# Altium integrated library Capacitors - Aluminum - Electrolytic SMT.IntLib: 1988 symbols (part 40 of 50)
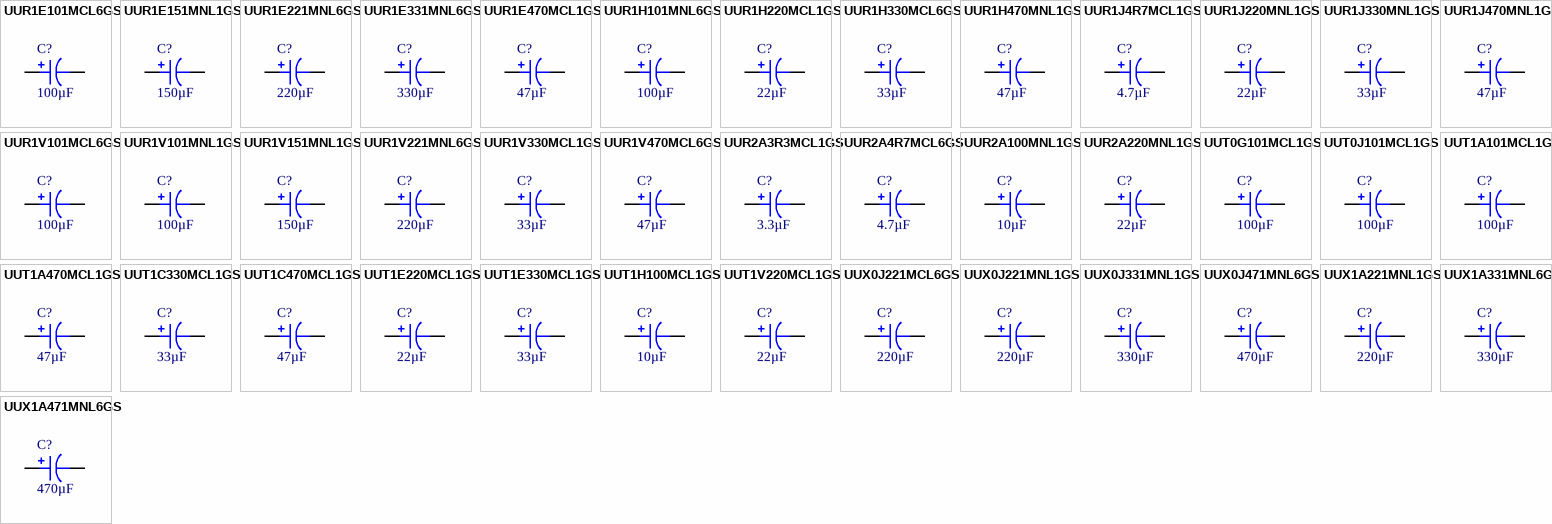
[diagram p87: symbols UUR1E101MCL6GS to UUX1A471MNL6GS]

## UUX0J221MNL1GS
designator C?, comment 220µF
CAP ALUM 220UF 20% 6.3V SMD; Part Number: UUX0J221MNL1GS; Manufacturer: Nichicon; Lifetime @ Temp.: 2000 Hrs @ 105°C; Polarization: Polar; Ripple Current @ High Frequency: 209.3mA @ 10kHz; Ripple Current @ Low Frequency: 161mA @ 120Hz; Surface Mount Land Size: 0.327" L x 0.327" W (8.30mm x 8.30mm); Applications: General Purpose; Capacitance: 220µF; ComponentLink1Description: Datasheet; ComponentLink1URL: http://nichicon-us.com/english/products/pdfs/e-uux.pdf; ComponentLink2Description: DigiKey Link; ComponentLink2URL: http://digikey.com/product-detail/en/nichicon/UUX0J221MNL1GS/493-9603-1-ND/3962935; Device Package: Radial, Can - SMD; Height - Seated (Max): 0.413" (10.50mm); LastUpdated: 9/2/2020 1:25:15 AM; Lifecycle Status: Active; Minimum Order: 1; Mounting Type: Surface Mount; Operating Temperature: -55°C ~ 105°C; Package / Case: Radial, Can - SMD; Packaging: TapeAndReel; PartId: 7577; Part Status: Active; Price: 0.15; Series: UUX; Size / Dimension: 0.315" Dia (8.00mm); Supplier 1: DigiKey; Supplier Part Number 1: 493-9603-1-ND; Tolerance: ±20%; Value: 220µF; Voltage - Rated: 6.3V
footprint CAP ALSMD 8.3MM H10.5MM
pins: 1, 2

## UUX0J331MNL1GS
designator C?, comment 330µF
CAP ALUM 330UF 20% 6.3V SMD; Part Number: UUX0J331MNL1GS; Manufacturer: Nichicon; Lifetime @ Temp.: 2000 Hrs @ 105°C; Polarization: Polar; Ripple Current @ High Frequency: 374.4mA @ 10kHz; Ripple Current @ Low Frequency: 288mA @ 120Hz; Surface Mount Land Size: 0.327" L x 0.327" W (8.30mm x 8.30mm); Applications: General Purpose; Capacitance: 330µF; ComponentLink1Description: Datasheet; ComponentLink1URL: http://nichicon-us.com/english/products/pdfs/e-uux.pdf; ComponentLink2Description: DigiKey Link; ComponentLink2URL: http://digikey.com/product-detail/en/nichicon/UUX0J331MNL1GS/493-9604-1-ND/3962936; Device Package: Radial, Can - SMD; Height - Seated (Max): 0.413" (10.50mm); LastUpdated: 9/2/2020 1:25:15 AM; Lifecycle Status: Active; Minimum Order: 1; Mounting Type: Surface Mount; Operating Temperature: -55°C ~ 105°C; Package / Case: Radial, Can - SMD; Packaging: TapeAndReel; PartId: 7561; Part Status: Active; Price: 0.17; Series: UUX; Size / Dimension: 0.315" Dia (8.00mm); Supplier 1: DigiKey; Supplier Part Number 1: 493-9604-1-ND; Tolerance: ±20%; Value: 330µF; Voltage - Rated: 6.3V
footprint CAP ALSMD 8.3MM H10.5MM
pins: 1, 2

## UUX0J471MNL6GS
designator C?, comment 470µF
CAP ALUM 470UF 20% 6.3V SMD; Part Number: UUX0J471MNL6GS; Manufacturer: Nichicon; Lifetime @ Temp.: 2000 Hrs @ 105°C; Polarization: Polar; Ripple Current @ High Frequency: 410.8mA @ 10kHz; Ripple Current @ Low Frequency: 316mA @ 120Hz; Surface Mount Land Size: 0.327" L x 0.327" W (8.30mm x 8.30mm); Applications: General Purpose; Capacitance: 470µF; ComponentLink1Description: Datasheet; ComponentLink1URL: http://nichicon-us.com/english/products/pdfs/e-uux.pdf; ComponentLink2Description: DigiKey Link; ComponentLink2URL: http://digikey.com/product-detail/en/nichicon/UUX0J471MNL6GS/493-9606-1-ND/3962938; Device Package: Radial, Can - SMD; Height - Seated (Max): 0.413" (10.50mm); LastUpdated: 9/2/2020 1:25:16 AM; Lifecycle Status: Active; Minimum Order: 1; Mounting Type: Surface Mount; Operating Temperature: -55°C ~ 105°C; Package / Case: Radial, Can - SMD; Packaging: TapeAndReel; PartId: 7469; Part Status: Active; Price: 0.15; Series: UUX; Size / Dimension: 0.315" Dia (8.00mm); Supplier 1: DigiKey; Supplier Part Number 1: 493-9606-1-ND; Tolerance: ±20%; Value: 470µF; Voltage - Rated: 6.3V
footprint CAP ALSMD 8.3MM H10.5MM
pins: 1, 2

## UUX1A221MNL1GS
designator C?, comment 220µF
CAP ALUM 220UF 20% 10V SMD; Part Number: UUX1A221MNL1GS; Manufacturer: Nichicon; Lifetime @ Temp.: 2000 Hrs @ 105°C; Polarization: Polar; Ripple Current @ High Frequency: 224.9mA @ 10kHz; Ripple Current @ Low Frequency: 173mA @ 120Hz; Surface Mount Land Size: 0.327" L x 0.327" W (8.30mm x 8.30mm); Applications: General Purpose; Capacitance: 220µF; ComponentLink1Description: Datasheet; ComponentLink1URL: http://nichicon-us.com/english/products/pdfs/e-uux.pdf; ComponentLink2Description: DigiKey Link; ComponentLink2URL: http://digikey.com/product-detail/en/nichicon/UUX1A221MNL1GS/493-7449-1-ND/3768839; Device Package: Radial, Can - SMD; Height - Seated (Max): 0.413" (10.50mm); LastUpdated: 9/2/2020 1:25:15 AM; Lifecycle Status: Active; Minimum Order: 1; Mounting Type: Surface Mount; Operating Temperature: -55°C ~ 105°C; Package / Case: Radial, Can - SMD; Packaging: TapeAndReel; PartId: 7560; Part Status: Active; Price: 0.16; Series: UUX; Size / Dimension: 0.315" Dia (8.00mm); Supplier 1: DigiKey; Supplier Part Number 1: 493-7449-1-ND; Tolerance: ±20%; Value: 220µF; Voltage - Rated: 10V
footprint CAP ALSMD 8.3MM H10.5MM
pins: 1, 2

## UUX1A331MNL6GS
designator C?, comment 330µF
CAP ALUM 330UF 20% 10V SMD; Part Number: UUX1A331MNL6GS; Manufacturer: Nichicon; Lifetime @ Temp.: 2000 Hrs @ 105°C; Polarization: Polar; Ripple Current @ High Frequency: 384.8mA @ 10kHz; Ripple Current @ Low Frequency: 296mA @ 120Hz; Surface Mount Land Size: 0.327" L x 0.327" W (8.30mm x 8.30mm); Applications: General Purpose; Capacitance: 330µF; ComponentLink1Description: Datasheet; ComponentLink1URL: http://nichicon-us.com/english/products/pdfs/e-uux.pdf; ComponentLink2Description: DigiKey Link; ComponentLink2URL: http://digikey.com/product-detail/en/nichicon/UUX1A331MNL6GS/493-9611-1-ND/3962943; Device Package: Radial, Can - SMD; Height - Seated (Max): 0.413" (10.50mm); LastUpdated: 9/2/2020 1:25:16 AM; Lifecycle Status: Active; Minimum Order: 1; Mounting Type: Surface Mount; Operating Temperature: -55°C ~ 105°C; Package / Case: Radial, Can - SMD; Packaging: TapeAndReel; PartId: 7470; Part Status: Active; Price: 0.15; Series: UUX; Size / Dimension: 0.315" Dia (8.00mm); Supplier 1: DigiKey; Supplier Part Number 1: 493-9611-1-ND; Tolerance: ±20%; Value: 330µF; Voltage - Rated: 10V
footprint CAP ALSMD 8.3MM H10.5MM
pins: 1, 2

## UUX1A471MNL6GS
designator C?, comment 470µF
CAP ALUM 470UF 20% 10V SMD; Part Number: UUX1A471MNL6GS; Manufacturer: Nichicon; Lifetime @ Temp.: 2000 Hrs @ 105°C; Polarization: Polar; Ripple Current @ High Frequency: 423.8mA @ 10kHz; Ripple Current @ Low Frequency: 326mA @ 120Hz; Surface Mount Land Size: 0.327" L x 0.327" W (8.30mm x 8.30mm); Applications: General Purpose; Capacitance: 470µF; ComponentLink1Description: Datasheet; ComponentLink1URL: http://nichicon-us.com/english/products/pdfs/e-uux.pdf; ComponentLink2Description: DigiKey Link; ComponentLink2URL: http://digikey.com/product-detail/en/nichicon/UUX1A471MNL6GS/493-9612-1-ND/3962944; Device Package: Radial, Can - SMD; Height - Seated (Max): 0.413" (10.50mm); LastUpdated: 9/2/2020 1:25:14 AM; Lifecycle Status: Active; Minimum Order: 1; Mounting Type: Surface Mount; Operating Temperature: -55°C ~ 105°C; Package / Case: Radial, Can - SMD; Packaging: TapeAndReel; PartId: 7643; Part Status: Active; Price: 0.22; Series: UUX; Size / Dimension: 0.315" Dia (8.00mm); Supplier 1: DigiKey; Supplier Part Number 1: 493-9612-1-ND; Tolerance: ±20%; Value: 470µF; Voltage - Rated: 10V
footprint CAP ALSMD 8.3MM H10.5MM
pins: 1, 2

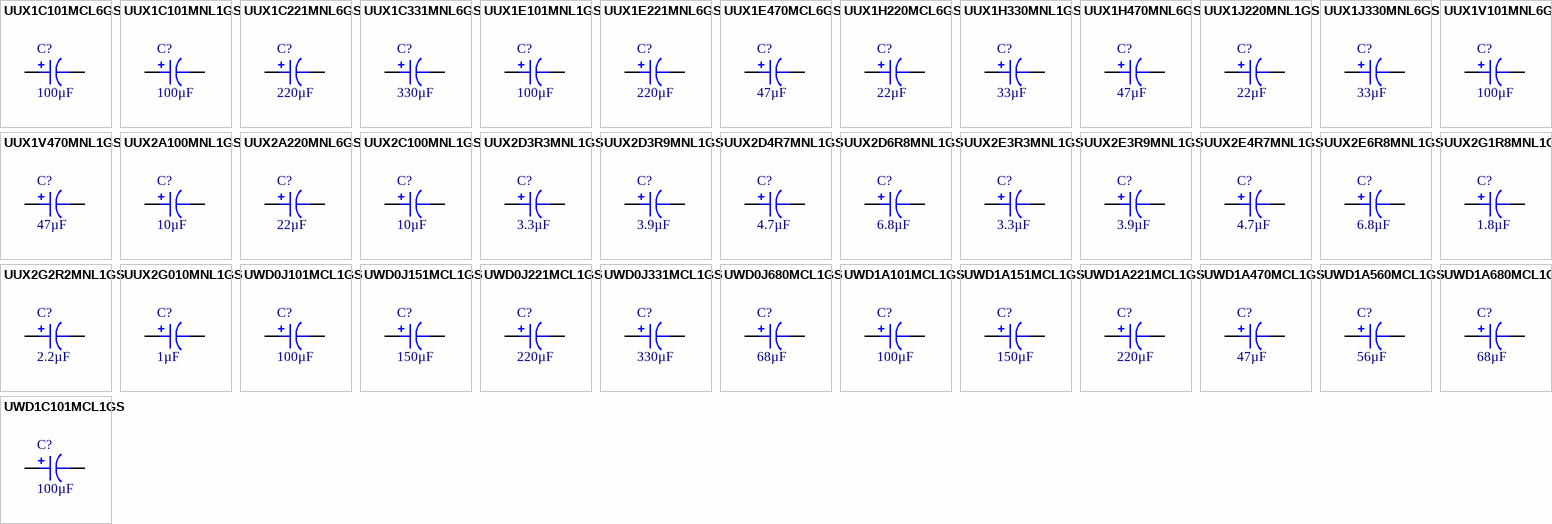
[diagram p39: symbols UUX1C101MCL6GS to UWD1C101MCL1GS]

## UUX1C101MCL6GS
designator C?, comment 100µF
CAP ALUM 100UF 20% 16V SMD; Part Number: UUX1C101MCL6GS; Manufacturer: Nichicon; Lifetime @ Temp.: 2000 Hrs @ 105°C; Polarization: Polar; Ripple Current @ High Frequency: 144.3mA @ 10kHz; Ripple Current @ Low Frequency: 111mA @ 120Hz; Surface Mount Land Size: 0.260" L x 0.260" W (6.60mm x 6.60mm); Applications: General Purpose; Capacitance: 100µF; ComponentLink1Description: Datasheet; ComponentLink1URL: http://nichicon-us.com/english/products/pdfs/e-uux.pdf; ComponentLink2Description: DigiKey Link; ComponentLink2URL: http://digikey.com/product-detail/en/nichicon/UUX1C101MCL6GS/493-9614-1-ND/3962946; Device Package: Radial, Can - SMD; Height - Seated (Max): 0.315" (8.00mm); LastUpdated: 9/2/2020 1:25:38 AM; Lifecycle Status: Active; Minimum Order: 1; Mounting Type: Surface Mount; Operating Temperature: -55°C ~ 105°C; Package / Case: Radial, Can - SMD; Packaging: TapeAndReel; PartId: 8395; Part Status: Active; Price: 0.11; Series: UUX; Size / Dimension: 0.248" Dia (6.30mm); Supplier 1: DigiKey; Supplier Part Number 1: 493-9614-1-ND; Tolerance: ±20%; Value: 100µF; Voltage - Rated: 16V
footprint CAP ALSMD 6.6MM H8.0MM
pins: 1, 2

## UUX1C101MNL1GS
designator C?, comment 100µF
CAP ALUM 100UF 20% 16V SMD; Part Number: UUX1C101MNL1GS; Manufacturer: Nichicon; Lifetime @ Temp.: 2000 Hrs @ 105°C; Polarization: Polar; Ripple Current @ High Frequency: 192.4mA @ 10kHz; Ripple Current @ Low Frequency: 148mA @ 120Hz; Surface Mount Land Size: 0.327" L x 0.327" W (8.30mm x 8.30mm); Applications: General Purpose; Capacitance: 100µF; ComponentLink1Description: Datasheet; ComponentLink1URL: http://nichicon-us.com/english/products/pdfs/e-uux.pdf; ComponentLink2Description: DigiKey Link; ComponentLink2URL: http://digikey.com/product-detail/en/nichicon/UUX1C101MNL1GS/493-9615-1-ND/3962947; Device Package: Radial, Can - SMD; Height - Seated (Max): 0.413" (10.50mm); LastUpdated: 9/2/2020 1:25:14 AM; Lifecycle Status: Active; Minimum Order: 1; Mounting Type: Surface Mount; Operating Temperature: -55°C ~ 105°C; Package / Case: Radial, Can - SMD; Packaging: TapeAndReel; PartId: 7711; Part Status: Active; Price: 0.17; Series: UUX; Size / Dimension: 0.315" Dia (8.00mm); Supplier 1: DigiKey; Supplier Part Number 1: 493-9615-1-ND; Tolerance: ±20%; Value: 100µF; Voltage - Rated: 16V
footprint CAP ALSMD 8.3MM H10.5MM
pins: 1, 2

## UUX1C221MNL6GS
designator C?, comment 220µF
CAP ALUM 220UF 20% 16V SMD; Part Number: UUX1C221MNL6GS; Manufacturer: Nichicon; Lifetime @ Temp.: 2000 Hrs @ 105°C; Polarization: Polar; Ripple Current @ High Frequency: 429mA @ 10kHz; Ripple Current @ Low Frequency: 307mA @ 120Hz; Surface Mount Land Size: 0.327" L x 0.327" W (8.30mm x 8.30mm); Applications: General Purpose; Capacitance: 220µF; ComponentLink1Description: Datasheet; ComponentLink1URL: http://nichicon-us.com/english/products/pdfs/e-uux.pdf; ComponentLink2Description: DigiKey Link; ComponentLink2URL: http://digikey.com/product-detail/en/nichicon/UUX1C221MNL6GS/493-6266-1-ND/3438779; Device Package: Radial, Can - SMD; Height - Seated (Max): 0.413" (10.50mm); LastUpdated: 9/2/2020 1:25:15 AM; Lifecycle Status: Active; Minimum Order: 1; Mounting Type: Surface Mount; Operating Temperature: -55°C ~ 105°C; Package / Case: Radial, Can - SMD; Packaging: TapeAndReel; PartId: 7620; Part Status: Active; Price: 0.14; Series: UUX; Size / Dimension: 0.315" Dia (8.00mm); Supplier 1: DigiKey; Supplier Part Number 1: 493-6266-1-ND; Tolerance: ±20%; Value: 220µF; Voltage - Rated: 16V
footprint CAP ALSMD 8.3MM H10.5MM
pins: 1, 2

## UUX1C331MNL6GS
designator C?, comment 330µF
CAP ALUM 330UF 20% 16V SMD; Part Number: UUX1C331MNL6GS; Manufacturer: Nichicon; Lifetime @ Temp.: 2000 Hrs @ 105°C; Polarization: Polar; Ripple Current @ High Frequency: 533mA @ 10kHz; Ripple Current @ Low Frequency: 410mA @ 120Hz; Surface Mount Land Size: 0.327" L x 0.327" W (8.30mm x 8.30mm); Applications: General Purpose; Capacitance: 330µF; ComponentLink1Description: Datasheet; ComponentLink1URL: http://nichicon-us.com/english/products/pdfs/e-uux.pdf; ComponentLink2Description: DigiKey Link; ComponentLink2URL: http://digikey.com/product-detail/en/nichicon/UUX1C331MNL6GS/493-7450-1-ND/3768841; Device Package: Radial, Can - SMD; Height - Seated (Max): 0.413" (10.50mm); LastUpdated: 9/2/2020 1:25:13 AM; Lifecycle Status: Active; Minimum Order: 1; Mounting Type: Surface Mount; Operating Temperature: -55°C ~ 105°C; Package / Case: Radial, Can - SMD; Packaging: TapeAndReel; PartId: 7763; Part Status: Active; Price: 0.24; Series: UUX; Size / Dimension: 0.315" Dia (8.00mm); Supplier 1: DigiKey; Supplier Part Number 1: 493-7450-1-ND; Tolerance: ±20%; Value: 330µF; Voltage - Rated: 16V
footprint CAP ALSMD 8.3MM H10.5MM
pins: 1, 2

## UUX1E101MNL1GS
designator C?, comment 100µF
CAP ALUM 100UF 20% 25V SMD; Part Number: UUX1E101MNL1GS; Manufacturer: Nichicon; Lifetime @ Temp.: 2000 Hrs @ 105°C; Polarization: Polar; Ripple Current @ High Frequency: 235.3mA @ 10kHz; Ripple Current @ Low Frequency: 181mA @ 120Hz; Surface Mount Land Size: 0.327" L x 0.327" W (8.30mm x 8.30mm); Applications: General Purpose; Capacitance: 100µF; ComponentLink1Description: Datasheet; ComponentLink1URL: http://nichicon-us.com/english/products/pdfs/e-uux.pdf; ComponentLink2Description: DigiKey Link; ComponentLink2URL: http://digikey.com/product-detail/en/nichicon/UUX1E101MNL1GS/493-6268-1-ND/3438781; Device Package: Radial, Can - SMD; Height - Seated (Max): 0.413" (10.50mm); LastUpdated: 9/2/2020 1:25:13 AM; Lifecycle Status: Active; Minimum Order: 1; Mounting Type: Surface Mount; Operating Temperature: -55°C ~ 105°C; Package / Case: Radial, Can - SMD; Packaging: TapeAndReel; PartId: 7754; Part Status: Active; Price: 0.15; Series: UUX; Size / Dimension: 0.315" Dia (8.00mm); Supplier 1: DigiKey; Supplier Part Number 1: 493-6268-1-ND; Tolerance: ±20%; Value: 100µF; Voltage - Rated: 25V
footprint CAP ALSMD 8.3MM H10.5MM
pins: 1, 2

## UUX1E221MNL6GS
designator C?, comment 220µF
CAP ALUM 220UF 20% 25V SMD; Part Number: UUX1E221MNL6GS; Manufacturer: Nichicon; Lifetime @ Temp.: 2000 Hrs @ 105°C; Polarization: Polar; Ripple Current @ High Frequency: 367.9mA @ 10kHz; Ripple Current @ Low Frequency: 283mA @ 120Hz; Surface Mount Land Size: 0.327" L x 0.327" W (8.30mm x 8.30mm); Applications: General Purpose; Capacitance: 220µF; ComponentLink1Description: Datasheet; ComponentLink1URL: http://nichicon-us.com/english/products/pdfs/e-uux.pdf; ComponentLink2Description: DigiKey Link; ComponentLink2URL: http://digikey.com/product-detail/en/nichicon/UUX1E221MNL6GS/493-9620-1-ND/3962952; Device Package: Radial, Can - SMD; Height - Seated (Max): 0.413" (10.50mm); LastUpdated: 9/2/2020 1:25:14 AM; Lifecycle Status: Active; Minimum Order: 1; Mounting Type: Surface Mount; Operating Temperature: -55°C ~ 105°C; Package / Case: Radial, Can - SMD; Packaging: TapeAndReel; PartId: 7707; Part Status: Active; Price: 0.16; Series: UUX; Size / Dimension: 0.315" Dia (8.00mm); Supplier 1: DigiKey; Supplier Part Number 1: 493-9620-1-ND; Tolerance: ±20%; Value: 220µF; Voltage - Rated: 25V
footprint CAP ALSMD 8.3MM H10.5MM
pins: 1, 2

## UUX1E470MCL6GS
designator C?, comment 47µF
CAP ALUM 47UF 20% 25V SMD; Part Number: UUX1E470MCL6GS; Manufacturer: Nichicon; Lifetime @ Temp.: 2000 Hrs @ 105°C; Polarization: Polar; Ripple Current @ High Frequency: 130.26mA @ 10kHz; Ripple Current @ Low Frequency: 78mA @ 120Hz; Surface Mount Land Size: 0.260" L x 0.260" W (6.60mm x 6.60mm); Applications: General Purpose; Capacitance: 47µF; ComponentLink1Description: Datasheet; ComponentLink1URL: http://nichicon-us.com/english/products/pdfs/e-uux.pdf; ComponentLink2Description: DigiKey Link; ComponentLink2URL: http://digikey.com/product-detail/en/nichicon/UUX1E470MCL6GS/493-9623-1-ND/3962955; Device Package: Radial, Can - SMD; Height - Seated (Max): 0.315" (8.00mm); LastUpdated: 9/2/2020 1:25:38 AM; Lifecycle Status: Active; Minimum Order: 1; Mounting Type: Surface Mount; Operating Temperature: -55°C ~ 105°C; Package / Case: Radial, Can - SMD; Packaging: TapeAndReel; PartId: 8421; Part Status: Active; Price: 0.12; Series: UUX; Size / Dimension: 0.248" Dia (6.30mm); Supplier 1: DigiKey; Supplier Part Number 1: 493-9623-1-ND; Tolerance: ±20%; Value: 47µF; Voltage - Rated: 25V
footprint CAP ALSMD 6.6MM H8.0MM
pins: 1, 2

## UUX1H220MCL6GS
designator C?, comment 22µF
CAP ALUM 22UF 20% 50V SMD; Part Number: UUX1H220MCL6GS; Manufacturer: Nichicon; Lifetime @ Temp.: 2000 Hrs @ 105°C; Polarization: Polar; Ripple Current @ High Frequency: 106.88mA @ 10kHz; Ripple Current @ Low Frequency: 64mA @ 120Hz; Surface Mount Land Size: 0.260" L x 0.260" W (6.60mm x 6.60mm); Applications: General Purpose; Capacitance: 22µF; ComponentLink1Description: Datasheet; ComponentLink1URL: http://nichicon-us.com/english/products/pdfs/e-uux.pdf; ComponentLink2Description: DigiKey Link; ComponentLink2URL: http://digikey.com/product-detail/en/nichicon/UUX1H220MCL6GS/493-9625-1-ND/3962957; Device Package: Radial, Can - SMD; Height - Seated (Max): 0.315" (8.00mm); LastUpdated: 9/2/2020 1:25:38 AM; Lifecycle Status: Active; Minimum Order: 1; Mounting Type: Surface Mount; Operating Temperature: -55°C ~ 105°C; Package / Case: Radial, Can - SMD; Packaging: TapeAndReel; PartId: 8356; Part Status: Active; Price: 0.13; Series: UUX; Size / Dimension: 0.248" Dia (6.30mm); Supplier 1: DigiKey; Supplier Part Number 1: 493-9625-1-ND; Tolerance: ±20%; Value: 22µF; Voltage - Rated: 50V
footprint CAP ALSMD 6.6MM H8.0MM
pins: 1, 2

## UUX1H330MNL1GS
designator C?, comment 33µF
CAP ALUM 33UF 20% 50V SMD; Part Number: UUX1H330MNL1GS; Manufacturer: Nichicon; Lifetime @ Temp.: 2000 Hrs @ 105°C; Polarization: Polar; Ripple Current @ High Frequency: 222.11mA @ 10kHz; Ripple Current @ Low Frequency: 133mA @ 120Hz; Surface Mount Land Size: 0.327" L x 0.327" W (8.30mm x 8.30mm); Applications: General Purpose; Capacitance: 33µF; ComponentLink1Description: Datasheet; ComponentLink1URL: http://nichicon-us.com/english/products/pdfs/e-uux.pdf; ComponentLink2Description: DigiKey Link; ComponentLink2URL: http://digikey.com/product-detail/en/nichicon/UUX1H330MNL1GS/493-6270-1-ND/3438783; Device Package: Radial, Can - SMD; Height - Seated (Max): 0.413" (10.50mm); LastUpdated: 9/2/2020 1:25:15 AM; Lifecycle Status: Active; Minimum Order: 1; Mounting Type: Surface Mount; Operating Temperature: -55°C ~ 105°C; Package / Case: Radial, Can - SMD; Packaging: TapeAndReel; PartId: 7559; Part Status: Active; Price: 0.15; Series: UUX; Size / Dimension: 0.315" Dia (8.00mm); Supplier 1: DigiKey; Supplier Part Number 1: 493-6270-1-ND; Tolerance: ±20%; Value: 33µF; Voltage - Rated: 50V
footprint CAP ALSMD 8.3MM H10.5MM
pins: 1, 2

## UUX1H470MNL6GS
designator C?, comment 47µF
CAP ALUM 47UF 20% 50V SMD; Part Number: UUX1H470MNL6GS; Manufacturer: Nichicon; Lifetime @ Temp.: 2000 Hrs @ 105°C; Polarization: Polar; Ripple Current @ High Frequency: 278.89mA @ 10kHz; Ripple Current @ Low Frequency: 167mA @ 120Hz; Surface Mount Land Size: 0.327" L x 0.327" W (8.30mm x 8.30mm); Applications: General Purpose; Capacitance: 47µF; ComponentLink1Description: Datasheet; ComponentLink1URL: http://nichicon-us.com/english/products/pdfs/e-uux.pdf; ComponentLink2Description: DigiKey Link; ComponentLink2URL: http://digikey.com/product-detail/en/nichicon/UUX1H470MNL6GS/493-6272-1-ND/3438785; Device Package: Radial, Can - SMD; Height - Seated (Max): 0.413" (10.50mm); LastUpdated: 9/2/2020 1:25:15 AM; Lifecycle Status: Active; Minimum Order: 1; Mounting Type: Surface Mount; Operating Temperature: -55°C ~ 105°C; Package / Case: Radial, Can - SMD; Packaging: TapeAndReel; PartId: 7622; Part Status: Active; Price: 0.14; Series: UUX; Size / Dimension: 0.315" Dia (8.00mm); Supplier 1: DigiKey; Supplier Part Number 1: 493-6272-1-ND; Tolerance: ±20%; Value: 47µF; Voltage - Rated: 50V
footprint CAP ALSMD 8.3MM H10.5MM
pins: 1, 2

## UUX1J220MNL1GS
designator C?, comment 22µF
CAP ALUM 22UF 20% 63V SMD; Part Number: UUX1J220MNL1GS; Manufacturer: Nichicon; Lifetime @ Temp.: 2000 Hrs @ 105°C; Polarization: Polar; Ripple Current @ High Frequency: 180.36mA @ 10kHz; Ripple Current @ Low Frequency: 108mA @ 120Hz; Surface Mount Land Size: 0.327" L x 0.327" W (8.30mm x 8.30mm); Applications: General Purpose; Capacitance: 22µF; ComponentLink1Description: Datasheet; ComponentLink1URL: http://nichicon-us.com/english/products/pdfs/e-uux.pdf; ComponentLink2Description: DigiKey Link; ComponentLink2URL: http://digikey.com/product-detail/en/nichicon/UUX1J220MNL1GS/493-6274-1-ND/3438787; Device Package: Radial, Can - SMD; Height - Seated (Max): 0.413" (10.50mm); LastUpdated: 9/2/2020 1:25:15 AM; Lifecycle Status: Active; Minimum Order: 1; Mounting Type: Surface Mount; Operating Temperature: -55°C ~ 105°C; Package / Case: Radial, Can - SMD; Packaging: TapeAndReel; PartId: 7536; Part Status: Active; Price: 0.17; Series: UUX; Size / Dimension: 0.315" Dia (8.00mm); Supplier 1: DigiKey; Supplier Part Number 1: 493-6274-1-ND; Tolerance: ±20%; Value: 22µF; Voltage - Rated: 63V
footprint CAP ALSMD 8.3MM H10.5MM
pins: 1, 2

## UUX1J330MNL6GS
designator C?, comment 33µF
CAP ALUM 33UF 20% 63V SMD; Part Number: UUX1J330MNL6GS; Manufacturer: Nichicon; Lifetime @ Temp.: 2000 Hrs @ 105°C; Polarization: Polar; Ripple Current @ High Frequency: 298.93mA @ 10kHz; Ripple Current @ Low Frequency: 179mA @ 120Hz; Surface Mount Land Size: 0.327" L x 0.327" W (8.30mm x 8.30mm); Applications: General Purpose; Capacitance: 33µF; ComponentLink1Description: Datasheet; ComponentLink1URL: http://nichicon-us.com/english/products/pdfs/e-uux.pdf; ComponentLink2Description: DigiKey Link; ComponentLink2URL: http://digikey.com/product-detail/en/nichicon/UUX1J330MNL6GS/493-9972-1-ND/3974043; Device Package: Radial, Can - SMD; Height - Seated (Max): 0.413" (10.50mm); LastUpdated: 9/2/2020 1:25:15 AM; Lifecycle Status: Active; Minimum Order: 1; Mounting Type: Surface Mount; Operating Temperature: -55°C ~ 105°C; Package / Case: Radial, Can - SMD; Packaging: TapeAndReel; PartId: 7556; Part Status: Active; Price: 0.15; Series: UUX; Size / Dimension: 0.315" Dia (8.00mm); Supplier 1: DigiKey; Supplier Part Number 1: 493-9972-1-ND; Tolerance: ±20%; Value: 33µF; Voltage - Rated: 63V
footprint CAP ALSMD 8.3MM H10.5MM
pins: 1, 2

## UUX1V101MNL6GS
designator C?, comment 100µF
CAP ALUM 100UF 20% 35V SMD; Part Number: UUX1V101MNL6GS; Manufacturer: Nichicon; Lifetime @ Temp.: 2000 Hrs @ 105°C; Polarization: Polar; Ripple Current @ High Frequency: 367.9mA @ 10kHz; Ripple Current @ Low Frequency: 283mA @ 120Hz; Surface Mount Land Size: 0.327" L x 0.327" W (8.30mm x 8.30mm); Applications: General Purpose; Capacitance: 100µF; ComponentLink1Description: Datasheet; ComponentLink1URL: http://nichicon-us.com/english/products/pdfs/e-uux.pdf; ComponentLink2Description: DigiKey Link; ComponentLink2URL: http://digikey.com/product-detail/en/nichicon/UUX1V101MNL6GS/493-6276-1-ND/3438789; Device Package: Radial, Can - SMD; Height - Seated (Max): 0.413" (10.50mm); LastUpdated: 9/2/2020 1:25:15 AM; Lifecycle Status: Active; Minimum Order: 1; Mounting Type: Surface Mount; Operating Temperature: -55°C ~ 105°C; Package / Case: Radial, Can - SMD; Packaging: TapeAndReel; PartId: 7565; Part Status: Active; Price: 0.19; Series: UUX; Size / Dimension: 0.315" Dia (8.00mm); Supplier 1: DigiKey; Supplier Part Number 1: 493-6276-1-ND; Tolerance: ±20%; Value: 100µF; Voltage - Rated: 35V
footprint CAP ALSMD 8.3MM H10.5MM
pins: 1, 2

## UUX1V470MNL1GS
designator C?, comment 47µF
CAP ALUM 47UF 20% 35V SMD; Part Number: UUX1V470MNL1GS; Manufacturer: Nichicon; Lifetime @ Temp.: 2000 Hrs @ 105°C; Polarization: Polar; Ripple Current @ High Frequency: 207.08mA @ 10kHz; Ripple Current @ Low Frequency: 124mA @ 120Hz; Surface Mount Land Size: 0.327" L x 0.327" W (8.30mm x 8.30mm); Applications: General Purpose; Capacitance: 47µF; ComponentLink1Description: Datasheet; ComponentLink1URL: http://nichicon-us.com/english/products/pdfs/e-uux.pdf; ComponentLink2Description: DigiKey Link; ComponentLink2URL: http://digikey.com/product-detail/en/nichicon/UUX1V470MNL1GS/493-6278-1-ND/3438791; Device Package: Radial, Can - SMD; Height - Seated (Max): 0.413" (10.50mm); LastUpdated: 9/2/2020 1:25:15 AM; Lifecycle Status: Active; Minimum Order: 1; Mounting Type: Surface Mount; Operating Temperature: -55°C ~ 105°C; Package / Case: Radial, Can - SMD; Packaging: TapeAndReel; PartId: 7623; Part Status: Active; Price: 0.14; Series: UUX; Size / Dimension: 0.315" Dia (8.00mm); Supplier 1: DigiKey; Supplier Part Number 1: 493-6278-1-ND; Tolerance: ±20%; Value: 47µF; Voltage - Rated: 35V
footprint CAP ALSMD 8.3MM H10.5MM
pins: 1, 2

## UUX2A100MNL1GS
designator C?, comment 10µF
CAP ALUM 10UF 20% 100V SMD; Part Number: UUX2A100MNL1GS; Manufacturer: Nichicon; Lifetime @ Temp.: 2000 Hrs @ 105°C; Polarization: Polar; Ripple Current @ High Frequency: 125.25mA @ 10kHz; Ripple Current @ Low Frequency: 75mA @ 120Hz; Surface Mount Land Size: 0.327" L x 0.327" W (8.30mm x 8.30mm); Applications: General Purpose; Capacitance: 10µF; ComponentLink1Description: Datasheet; ComponentLink1URL: http://nichicon-us.com/english/products/pdfs/e-uux.pdf; ComponentLink2Description: DigiKey Link; ComponentLink2URL: http://digikey.com/product-detail/en/nichicon/UUX2A100MNL1GS/493-6279-1-ND/3438792; Device Package: Radial, Can - SMD; Height - Seated (Max): 0.413" (10.50mm); LastUpdated: 9/2/2020 1:25:15 AM; Lifecycle Status: Active; Minimum Order: 1; Mounting Type: Surface Mount; Operating Temperature: -55°C ~ 105°C; Package / Case: Radial, Can - SMD; Packaging: TapeAndReel; PartId: 7531; Part Status: Active; Price: 0.18; Series: UUX; Size / Dimension: 0.315" Dia (8.00mm); Supplier 1: DigiKey; Supplier Part Number 1: 493-6279-1-ND; Tolerance: ±20%; Value: 10µF; Voltage - Rated: 100V
footprint CAP ALSMD 8.3MM H10.5MM
pins: 1, 2

## UUX2A220MNL6GS
designator C?, comment 22µF
CAP ALUM 22UF 20% 100V SMD; Part Number: UUX2A220MNL6GS; Manufacturer: Nichicon; Lifetime @ Temp.: 2000 Hrs @ 105°C; Polarization: Polar; Ripple Current @ High Frequency: 202.07mA @ 10kHz; Ripple Current @ Low Frequency: 121mA @ 120Hz; Surface Mount Land Size: 0.327" L x 0.327" W (8.30mm x 8.30mm); Applications: General Purpose; Capacitance: 22µF; ComponentLink1Description: Datasheet; ComponentLink1URL: http://nichicon-us.com/english/products/pdfs/e-uux.pdf; ComponentLink2Description: DigiKey Link; ComponentLink2URL: http://digikey.com/product-detail/en/nichicon/UUX2A220MNL6GS/493-6199-1-ND/3438712; Device Package: Radial, Can - SMD; Height - Seated (Max): 0.413" (10.50mm); LastUpdated: 9/2/2020 1:25:13 AM; Lifecycle Status: Active; Minimum Order: 1; Mounting Type: Surface Mount; Operating Temperature: -55°C ~ 105°C; Package / Case: Radial, Can - SMD; Packaging: TapeAndReel; PartId: 7756; Part Status: Active; Price: 0.15; Series: UUX; Size / Dimension: 0.315" Dia (8.00mm); Supplier 1: DigiKey; Supplier Part Number 1: 493-6199-1-ND; Tolerance: ±20%; Value: 22µF; Voltage - Rated: 100V
footprint CAP ALSMD 8.3MM H10.5MM
pins: 1, 2

## UUX2C100MNL1GS
designator C?, comment 10µF
CAP ALUM 10UF 20% 160V SMD; Part Number: UUX2C100MNL1GS; Manufacturer: Nichicon; Lifetime @ Temp.: 3000 Hrs @ 105°C; Polarization: Polar; Ripple Current @ High Frequency: 95.19mA @ 10kHz; Ripple Current @ Low Frequency: 57mA @ 120Hz; Surface Mount Land Size: 0.327" L x 0.327" W (8.30mm x 8.30mm); Applications: General Purpose; Capacitance: 10µF; ComponentLink1Description: Datasheet; ComponentLink1URL: http://nichicon-us.com/english/products/pdfs/e-uux.pdf; ComponentLink2Description: DigiKey Link; ComponentLink2URL: http://digikey.com/product-detail/en/nichicon/UUX2C100MNL1GS/493-9973-1-ND/3974045; Device Package: Radial, Can - SMD; Height - Seated (Max): 0.413" (10.50mm); LastUpdated: 9/2/2020 1:25:14 AM; Lifecycle Status: Active; Minimum Order: 1; Mounting Type: Surface Mount; Operating Temperature: -40°C ~ 105°C; Package / Case: Radial, Can - SMD; Packaging: TapeAndReel; PartId: 7696; Part Status: Active; Price: 0.29; Series: UUX; Size / Dimension: 0.315" Dia (8.00mm); Supplier 1: DigiKey; Supplier Part Number 1: 493-9973-1-ND; Tolerance: ±20%; Value: 10µF; Voltage - Rated: 160V
footprint CAP ALSMD 8.3MM H10.5MM
pins: 1, 2

## UUX2D3R3MNL1GS
designator C?, comment 3.3µF
CAP ALUM 3.3UF 20% 200V SMD; Part Number: UUX2D3R3MNL1GS; Manufacturer: Nichicon; Lifetime @ Temp.: 3000 Hrs @ 105°C; Polarization: Polar; Ripple Current @ High Frequency: 51.77mA @ 10kHz; Ripple Current @ Low Frequency: 31mA @ 120Hz; Surface Mount Land Size: 0.327" L x 0.327" W (8.30mm x 8.30mm); Applications: General Purpose; Capacitance: 3.3µF; ComponentLink1Description: Datasheet; ComponentLink1URL: http://nichicon-us.com/english/products/pdfs/e-uux.pdf; ComponentLink2Description: DigiKey Link; ComponentLink2URL: http://digikey.com/product-detail/en/nichicon/UUX2D3R3MNL1GS/493-9976-1-ND/3974049; Device Package: Radial, Can - SMD; Height - Seated (Max): 0.413" (10.50mm); LastUpdated: 9/2/2020 1:25:14 AM; Lifecycle Status: Active; Minimum Order: 1; Mounting Type: Surface Mount; Operating Temperature: -40°C ~ 105°C; Package / Case: Radial, Can - SMD; Packaging: TapeAndReel; PartId: 7721; Part Status: Active; Price: 0.25; Series: UUX; Size / Dimension: 0.315" Dia (8.00mm); Supplier 1: DigiKey; Supplier Part Number 1: 493-9976-1-ND; Tolerance: ±20%; Value: 3.3µF; Voltage - Rated: 200V
footprint CAP ALSMD 8.3MM H10.5MM
pins: 1, 2

## UUX2D3R9MNL1GS
designator C?, comment 3.9µF
CAP ALUM 3.9UF 20% 200V SMD; Part Number: UUX2D3R9MNL1GS; Manufacturer: Nichicon; Lifetime @ Temp.: 3000 Hrs @ 105°C; Polarization: Polar; Ripple Current @ High Frequency: 56.78mA @ 10kHz; Ripple Current @ Low Frequency: 34mA @ 120Hz; Surface Mount Land Size: 0.327" L x 0.327" W (8.30mm x 8.30mm); Applications: General Purpose; Capacitance: 3.9µF; ComponentLink1Description: Datasheet; ComponentLink1URL: http://nichicon-us.com/english/products/pdfs/e-uux.pdf; ComponentLink2Description: DigiKey Link; ComponentLink2URL: http://digikey.com/product-detail/en/nichicon/UUX2D3R9MNL1GS/493-9977-1-ND/3973971; Device Package: Radial, Can - SMD; Height - Seated (Max): 0.413" (10.50mm); LastUpdated: 9/2/2020 1:25:16 AM; Lifecycle Status: Active; Minimum Order: 1; Mounting Type: Surface Mount; Operating Temperature: -40°C ~ 105°C; Package / Case: Radial, Can - SMD; Packaging: TapeAndReel; PartId: 7464; Part Status: Active; Price: 0.25; Series: UUX; Size / Dimension: 0.315" Dia (8.00mm); Supplier 1: DigiKey; Supplier Part Number 1: 493-9977-1-ND; Tolerance: ±20%; Value: 3.9µF; Voltage - Rated: 200V
footprint CAP ALSMD 8.3MM H10.5MM
pins: 1, 2

## UUX2D4R7MNL1GS
designator C?, comment 4.7µF
CAP ALUM 4.7UF 20% 200V SMD; Part Number: UUX2D4R7MNL1GS; Manufacturer: Nichicon; Lifetime @ Temp.: 3000 Hrs @ 105°C; Polarization: Polar; Ripple Current @ High Frequency: 61.79mA @ 10kHz; Ripple Current @ Low Frequency: 37mA @ 120Hz; Surface Mount Land Size: 0.327" L x 0.327" W (8.30mm x 8.30mm); Applications: General Purpose; Capacitance: 4.7µF; ComponentLink1Description: Datasheet; ComponentLink1URL: http://nichicon-us.com/english/products/pdfs/e-uux.pdf; ComponentLink2Description: DigiKey Link; ComponentLink2URL: http://digikey.com/product-detail/en/nichicon/UUX2D4R7MNL1GS/493-9978-1-ND/3973973; Device Package: Radial, Can - SMD; Height - Seated (Max): 0.413" (10.50mm); LastUpdated: 9/2/2020 1:25:14 AM; Lifecycle Status: Active; Minimum Order: 1; Mounting Type: Surface Mount; Operating Temperature: -40°C ~ 105°C; Package / Case: Radial, Can - SMD; Packaging: TapeAndReel; PartId: 7691; Part Status: Active; Price: 0.25; Series: UUX; Size / Dimension: 0.315" Dia (8.00mm); Supplier 1: DigiKey; Supplier Part Number 1: 493-9978-1-ND; Tolerance: ±20%; Value: 4.7µF; Voltage - Rated: 200V
footprint CAP ALSMD 8.3MM H10.5MM
pins: 1, 2

## UUX2D6R8MNL1GS
designator C?, comment 6.8µF
CAP ALUM 6.8UF 20% 200V SMD; Part Number: UUX2D6R8MNL1GS; Manufacturer: Nichicon; Lifetime @ Temp.: 3000 Hrs @ 105°C; Polarization: Polar; Ripple Current @ High Frequency: 73.48mA @ 10kHz; Ripple Current @ Low Frequency: 44mA @ 120Hz; Surface Mount Land Size: 0.327" L x 0.327" W (8.30mm x 8.30mm); Applications: General Purpose; Capacitance: 6.8µF; ComponentLink1Description: Datasheet; ComponentLink1URL: http://nichicon-us.com/english/products/pdfs/e-uux.pdf; ComponentLink2Description: DigiKey Link; ComponentLink2URL: http://digikey.com/product-detail/en/nichicon/UUX2D6R8MNL1GS/493-9979-1-ND/3973975; Device Package: Radial, Can - SMD; Height - Seated (Max): 0.413" (10.50mm); LastUpdated: 9/2/2020 1:25:16 AM; Lifecycle Status: Active; Minimum Order: 1; Mounting Type: Surface Mount; Operating Temperature: -40°C ~ 105°C; Package / Case: Radial, Can - SMD; Packaging: TapeAndReel; PartId: 7474; Part Status: Active; Price: 0.25; Series: UUX; Size / Dimension: 0.315" Dia (8.00mm); Supplier 1: DigiKey; Supplier Part Number 1: 493-9979-1-ND; Tolerance: ±20%; Value: 6.8µF; Voltage - Rated: 200V
footprint CAP ALSMD 8.3MM H10.5MM
pins: 1, 2

## UUX2E3R3MNL1GS
designator C?, comment 3.3µF
CAP ALUM 3.3UF 20% 250V SMD; Part Number: UUX2E3R3MNL1GS; Manufacturer: Nichicon; Lifetime @ Temp.: 3000 Hrs @ 105°C; Polarization: Polar; Ripple Current @ High Frequency: 51.77mA @ 10kHz; Ripple Current @ Low Frequency: 31mA @ 120Hz; Surface Mount Land Size: 0.327" L x 0.327" W (8.30mm x 8.30mm); Applications: General Purpose; Capacitance: 3.3µF; ComponentLink1Description: Datasheet; ComponentLink1URL: http://nichicon-us.com/english/products/pdfs/e-uux.pdf; ComponentLink2Description: DigiKey Link; ComponentLink2URL: http://digikey.com/product-detail/en/nichicon/UUX2E3R3MNL1GS/493-9981-1-ND/3973979; Device Package: Radial, Can - SMD; Height - Seated (Max): 0.413" (10.50mm); LastUpdated: 9/2/2020 1:25:13 AM; Lifecycle Status: Active; Minimum Order: 1; Mounting Type: Surface Mount; Operating Temperature: -40°C ~ 105°C; Package / Case: Radial, Can - SMD; Packaging: TapeAndReel; PartId: 7764; Part Status: Active; Price: 0.25; Series: UUX; Size / Dimension: 0.315" Dia (8.00mm); Supplier 1: DigiKey; Supplier Part Number 1: 493-9981-1-ND; Tolerance: ±20%; Value: 3.3µF; Voltage - Rated: 250V
footprint CAP ALSMD 8.3MM H10.5MM
pins: 1, 2

## UUX2E3R9MNL1GS
designator C?, comment 3.9µF
CAP ALUM 3.9UF 20% 250V SMD; Part Number: UUX2E3R9MNL1GS; Manufacturer: Nichicon; Lifetime @ Temp.: 3000 Hrs @ 105°C; Polarization: Polar; Ripple Current @ High Frequency: 56.78mA @ 10kHz; Ripple Current @ Low Frequency: 34mA @ 120Hz; Surface Mount Land Size: 0.327" L x 0.327" W (8.30mm x 8.30mm); Applications: General Purpose; Capacitance: 3.9µF; ComponentLink1Description: Datasheet; ComponentLink1URL: http://nichicon-us.com/english/products/pdfs/e-uux.pdf; ComponentLink2Description: DigiKey Link; ComponentLink2URL: http://digikey.com/product-detail/en/nichicon/UUX2E3R9MNL1GS/493-9982-1-ND/3974083; Device Package: Radial, Can - SMD; Height - Seated (Max): 0.413" (10.50mm); LastUpdated: 9/2/2020 1:25:16 AM; Lifecycle Status: Active; Minimum Order: 1; Mounting Type: Surface Mount; Operating Temperature: -40°C ~ 105°C; Package / Case: Radial, Can - SMD; Packaging: TapeAndReel; PartId: 7506; Part Status: Active; Price: 0.24; Series: UUX; Size / Dimension: 0.315" Dia (8.00mm); Supplier 1: DigiKey; Supplier Part Number 1: 493-9982-1-ND; Tolerance: ±20%; Value: 3.9µF; Voltage - Rated: 250V
footprint CAP ALSMD 8.3MM H10.5MM
pins: 1, 2

## UUX2E4R7MNL1GS
designator C?, comment 4.7µF
CAP ALUM 4.7UF 20% 250V SMD; Part Number: UUX2E4R7MNL1GS; Manufacturer: Nichicon; Lifetime @ Temp.: 3000 Hrs @ 105°C; Polarization: Polar; Ripple Current @ High Frequency: 61.79mA @ 10kHz; Ripple Current @ Low Frequency: 37mA @ 120Hz; Surface Mount Land Size: 0.327" L x 0.327" W (8.30mm x 8.30mm); Applications: General Purpose; Capacitance: 4.7µF; ComponentLink1Description: Datasheet; ComponentLink1URL: http://nichicon-us.com/english/products/pdfs/e-uux.pdf; ComponentLink2Description: DigiKey Link; ComponentLink2URL: http://digikey.com/product-detail/en/nichicon/UUX2E4R7MNL1GS/493-9983-1-ND/3974085; Device Package: Radial, Can - SMD; Height - Seated (Max): 0.413" (10.50mm); LastUpdated: 9/2/2020 1:25:14 AM; Lifecycle Status: Active; Minimum Order: 1; Mounting Type: Surface Mount; Operating Temperature: -40°C ~ 105°C; Package / Case: Radial, Can - SMD; Packaging: TapeAndReel; PartId: 7690; Part Status: Active; Price: 0.25; Series: UUX; Size / Dimension: 0.315" Dia (8.00mm); Supplier 1: DigiKey; Supplier Part Number 1: 493-9983-1-ND; Tolerance: ±20%; Value: 4.7µF; Voltage - Rated: 250V
footprint CAP ALSMD 8.3MM H10.5MM
pins: 1, 2

## UUX2E6R8MNL1GS
designator C?, comment 6.8µF
CAP ALUM 6.8UF 20% 250V SMD; Part Number: UUX2E6R8MNL1GS; Manufacturer: Nichicon; Lifetime @ Temp.: 3000 Hrs @ 105°C; Polarization: Polar; Ripple Current @ High Frequency: 73.48mA @ 10kHz; Ripple Current @ Low Frequency: 44mA @ 120Hz; Surface Mount Land Size: 0.327" L x 0.327" W (8.30mm x 8.30mm); Applications: General Purpose; Capacitance: 6.8µF; ComponentLink1Description: Datasheet; ComponentLink1URL: http://nichicon-us.com/english/products/pdfs/e-uux.pdf; ComponentLink2Description: DigiKey Link; ComponentLink2URL: http://digikey.com/product-detail/en/nichicon/UUX2E6R8MNL1GS/493-9984-1-ND/3974087; Device Package: Radial, Can - SMD; Height - Seated (Max): 0.413" (10.50mm); LastUpdated: 9/2/2020 1:25:13 AM; Lifecycle Status: Active; Minimum Order: 1; Mounting Type: Surface Mount; Operating Temperature: -40°C ~ 105°C; Package / Case: Radial, Can - SMD; Packaging: TapeAndReel; PartId: 7765; Part Status: Active; Price: 0.25; Series: UUX; Size / Dimension: 0.315" Dia (8.00mm); Supplier 1: DigiKey; Supplier Part Number 1: 493-9984-1-ND; Tolerance: ±20%; Value: 6.8µF; Voltage - Rated: 250V
footprint CAP ALSMD 8.3MM H10.5MM
pins: 1, 2

## UUX2G1R8MNL1GS
designator C?, comment 1.8µF
CAP ALUM 1.8UF 20% 400V SMD; Part Number: UUX2G1R8MNL1GS; Manufacturer: Nichicon; Lifetime @ Temp.: 3000 Hrs @ 105°C; Polarization: Polar; Ripple Current @ High Frequency: 43.42mA @ 10kHz; Ripple Current @ Low Frequency: 26mA @ 120Hz; Surface Mount Land Size: 0.327" L x 0.327" W (8.30mm x 8.30mm); Applications: General Purpose; Capacitance: 1.8µF; ComponentLink1Description: Datasheet; ComponentLink1URL: http://nichicon-us.com/english/products/pdfs/e-uux.pdf; ComponentLink2Description: DigiKey Link; ComponentLink2URL: http://digikey.com/product-detail/en/nichicon/UUX2G1R8MNL1GS/493-9986-1-ND/3974021; Device Package: Radial, Can - SMD; Height - Seated (Max): 0.413" (10.50mm); LastUpdated: 9/2/2020 1:25:15 AM; Lifecycle Status: Active; Minimum Order: 1; Mounting Type: Surface Mount; Operating Temperature: -40°C ~ 105°C; Package / Case: Radial, Can - SMD; Packaging: TapeAndReel; PartId: 7509; Part Status: Active; Price: 0.26; Series: UUX; Size / Dimension: 0.315" Dia (8.00mm); Supplier 1: DigiKey; Supplier Part Number 1: 493-9986-1-ND; Tolerance: ±20%; Value: 1.8µF; Voltage - Rated: 400V
footprint CAP ALSMD 8.3MM H10.5MM
pins: 1, 2

## UUX2G2R2MNL1GS
designator C?, comment 2.2µF
CAP ALUM 2.2UF 20% 400V SMD; Part Number: UUX2G2R2MNL1GS; Manufacturer: Nichicon; Lifetime @ Temp.: 3000 Hrs @ 105°C; Polarization: Polar; Ripple Current @ High Frequency: 45.09mA @ 10kHz; Ripple Current @ Low Frequency: 27mA @ 120Hz; Surface Mount Land Size: 0.327" L x 0.327" W (8.30mm x 8.30mm); Applications: General Purpose; Capacitance: 2.2µF; ComponentLink1Description: Datasheet; ComponentLink1URL: http://nichicon-us.com/english/products/pdfs/e-uux.pdf; ComponentLink2Description: DigiKey Link; ComponentLink2URL: http://digikey.com/product-detail/en/nichicon/UUX2G2R2MNL1GS/493-9987-1-ND/3974023; Device Package: Radial, Can - SMD; Height - Seated (Max): 0.413" (10.50mm); LastUpdated: 9/2/2020 1:25:13 AM; Lifecycle Status: Active; Minimum Order: 1; Mounting Type: Surface Mount; Operating Temperature: -40°C ~ 105°C; Package / Case: Radial, Can - SMD; Packaging: TapeAndReel; PartId: 7744; Part Status: Active; Price: 0.33; Series: UUX; Size / Dimension: 0.315" Dia (8.00mm); Supplier 1: DigiKey; Supplier Part Number 1: 493-9987-1-ND; Tolerance: ±20%; Value: 2.2µF; Voltage - Rated: 400V
footprint CAP ALSMD 8.3MM H10.5MM
pins: 1, 2

## UUX2G010MNL1GS
designator C?, comment 1µF
CAP ALUM 1UF 20% 400V SMD; Part Number: UUX2G010MNL1GS; Manufacturer: Nichicon; Lifetime @ Temp.: 3000 Hrs @ 105°C; Polarization: Polar; Ripple Current @ High Frequency: 41.75mA @ 10kHz; Ripple Current @ Low Frequency: 25mA @ 120Hz; Surface Mount Land Size: 0.327" L x 0.327" W (8.30mm x 8.30mm); Applications: General Purpose; Capacitance: 1µF; ComponentLink1Description: Datasheet; ComponentLink1URL: http://nichicon-us.com/english/products/pdfs/e-uux.pdf; ComponentLink2Description: DigiKey Link; ComponentLink2URL: http://digikey.com/product-detail/en/nichicon/UUX2G010MNL1GS/493-9985-1-ND/3974091; Device Package: Radial, Can - SMD; Height - Seated (Max): 0.413" (10.50mm); LastUpdated: 9/2/2020 1:25:15 AM; Lifecycle Status: Active; Minimum Order: 1; Mounting Type: Surface Mount; Operating Temperature: -40°C ~ 105°C; Package / Case: Radial, Can - SMD; Packaging: TapeAndReel; PartId: 7619; Part Status: Active; Price: 0.27; Series: UUX; Size / Dimension: 0.315" Dia (8.00mm); Supplier 1: DigiKey; Supplier Part Number 1: 493-9985-1-ND; Tolerance: ±20%; Value: 1µF; Voltage - Rated: 400V
footprint CAP ALSMD 8.3MM H10.5MM
pins: 1, 2

## UWD0J101MCL1GS
designator C?, comment 100µF
CAP ALUM 100UF 20% 6.3V SMD; Part Number: UWD0J101MCL1GS; Manufacturer: Nichicon; Impedance: 440 mOhms; Lifetime @ Temp.: 2000 Hrs @ 105°C; Ripple Current @ High Frequency: 230mA @ 100kHz; Ripple Current @ Low Frequency: 115mA @ 120Hz; Surface Mount Land Size: 0.260" L x 0.260" W (6.60mm x 6.60mm); Applications: General Purpose; Capacitance: 100µF; ComponentLink1Description: Datasheet; ComponentLink1URL: http://nichicon-us.com/english/products/pdfs/e-uwd.pdf; ComponentLink2Description: DigiKey Link; ComponentLink2URL: http://digikey.com/product-detail/en/nichicon/UWD0J101MCL1GS/493-9632-1-ND/3962964; Device Package: Radial, Can - SMD; Height - Seated (Max): 0.228" (5.80mm); LastUpdated: 9/2/2020 1:18:38 AM; Lifecycle Status: Active; Minimum Order: 1; Mounting Type: Surface Mount; Operating Temperature: -55°C ~ 105°C; Package / Case: Radial, Can - SMD; Packaging: TapeAndReel; PartId: 8884; Part Status: Active; Price: 0.14; Series: UWD; Size / Dimension: 0.248" Dia (6.30mm); Supplier 1: DigiKey; Supplier Part Number 1: 493-9632-1-ND; Tolerance: ±20%; Value: 100µF; Voltage - Rated: 6.3V
footprint CAP ALSMD 6.6MM H6.1MM
pins: 1, 2

## UWD0J151MCL1GS
designator C?, comment 150µF
CAP ALUM 150UF 20% 6.3V SMD; Part Number: UWD0J151MCL1GS; Manufacturer: Nichicon; Impedance: 440 mOhms; Lifetime @ Temp.: 2000 Hrs @ 105°C; Ripple Current @ High Frequency: 230mA @ 100kHz; Ripple Current @ Low Frequency: 115mA @ 120Hz; Surface Mount Land Size: 0.260" L x 0.260" W (6.60mm x 6.60mm); Applications: General Purpose; Capacitance: 150µF; ComponentLink1Description: Datasheet; ComponentLink1URL: http://nichicon-us.com/english/products/pdfs/e-uwd.pdf; ComponentLink2Description: DigiKey Link; ComponentLink2URL: http://digikey.com/product-detail/en/nichicon/UWD0J151MCL1GS/493-9634-1-ND/3962966; Device Package: Radial, Can - SMD; Height - Seated (Max): 0.228" (5.80mm); LastUpdated: 9/2/2020 1:18:39 AM; Lifecycle Status: Active; Minimum Order: 1; Mounting Type: Surface Mount; Operating Temperature: -55°C ~ 105°C; Package / Case: Radial, Can - SMD; Packaging: TapeAndReel; PartId: 8935; Part Status: Active; Price: 0.22; Series: UWD; Size / Dimension: 0.248" Dia (6.30mm); Supplier 1: DigiKey; Supplier Part Number 1: 493-9634-1-ND; Tolerance: ±20%; Value: 150µF; Voltage - Rated: 6.3V
footprint CAP ALSMD 6.6MM H6.1MM
pins: 1, 2

## UWD0J221MCL1GS
designator C?, comment 220µF
CAP ALUM 220UF 20% 6.3V SMD; Part Number: UWD0J221MCL1GS; Manufacturer: Nichicon; Impedance: 440 mOhms; Lifetime @ Temp.: 2000 Hrs @ 105°C; Ripple Current @ High Frequency: 230mA @ 100kHz; Ripple Current @ Low Frequency: 115mA @ 120Hz; Surface Mount Land Size: 0.260" L x 0.260" W (6.60mm x 6.60mm); Applications: General Purpose; Capacitance: 220µF; ComponentLink1Description: Datasheet; ComponentLink1URL: http://nichicon-us.com/english/products/pdfs/e-uwd.pdf; ComponentLink2Description: DigiKey Link; ComponentLink2URL: http://digikey.com/product-detail/en/nichicon/UWD0J221MCL1GS/493-9636-1-ND/3962968; Device Package: Radial, Can - SMD; Height - Seated (Max): 0.228" (5.80mm); LastUpdated: 9/2/2020 1:18:39 AM; Lifecycle Status: Active; Minimum Order: 1; Mounting Type: Surface Mount; Operating Temperature: -55°C ~ 105°C; Package / Case: Radial, Can - SMD; Packaging: TapeAndReel; PartId: 8998; Part Status: Active; Price: 0.22; Series: UWD; Size / Dimension: 0.248" Dia (6.30mm); Supplier 1: DigiKey; Supplier Part Number 1: 493-9636-1-ND; Tolerance: ±20%; Value: 220µF; Voltage - Rated: 6.3V
footprint CAP ALSMD 6.6MM H6.1MM
pins: 1, 2

## UWD0J331MCL1GS
designator C?, comment 330µF
CAP ALUM 330UF 20% 6.3V SMD; Part Number: UWD0J331MCL1GS; Manufacturer: Nichicon; Impedance: 340 mOhms; Lifetime @ Temp.: 2000 Hrs @ 105°C; Ripple Current @ High Frequency: 280mA @ 100kHz; Ripple Current @ Low Frequency: 140mA @ 120Hz; Surface Mount Land Size: 0.260" L x 0.260" W (6.60mm x 6.60mm); Applications: General Purpose; Capacitance: 330µF; ComponentLink1Description: Datasheet; ComponentLink1URL: http://nichicon-us.com/english/products/pdfs/e-uwd.pdf; ComponentLink2Description: DigiKey Link; ComponentLink2URL: http://digikey.com/product-detail/en/nichicon/UWD0J331MCL1GS/493-6283-1-ND/3438796; Device Package: Radial, Can - SMD; Height - Seated (Max): 0.315" (8.00mm); LastUpdated: 9/2/2020 1:25:38 AM; Lifecycle Status: Active; Minimum Order: 1; Mounting Type: Surface Mount; Operating Temperature: -55°C ~ 105°C; Package / Case: Radial, Can - SMD; Packaging: TapeAndReel; PartId: 8357; Part Status: Active; Price: 0.23; Series: UWD; Size / Dimension: 0.248" Dia (6.30mm); Supplier 1: DigiKey; Supplier Part Number 1: 493-6283-1-ND; Tolerance: ±20%; Value: 330µF; Voltage - Rated: 6.3V
footprint CAP ALSMD 6.6MM H8.0MM
pins: 1, 2

## UWD0J680MCL1GS
designator C?, comment 68µF
CAP ALUM 68UF 20% 6.3V SMD; Part Number: UWD0J680MCL1GS; Manufacturer: Nichicon; Impedance: 440 mOhms; Lifetime @ Temp.: 2000 Hrs @ 105°C; Ripple Current @ High Frequency: 230mA @ 100kHz; Ripple Current @ Low Frequency: 115mA @ 120Hz; Surface Mount Land Size: 0.260" L x 0.260" W (6.60mm x 6.60mm); Applications: General Purpose; Capacitance: 68µF; ComponentLink1Description: Datasheet; ComponentLink1URL: http://nichicon-us.com/english/products/pdfs/e-uwd.pdf; ComponentLink2Description: DigiKey Link; ComponentLink2URL: http://digikey.com/product-detail/en/nichicon/UWD0J680MCL1GS/493-9642-1-ND/3962974; Device Package: Radial, Can - SMD; Height - Seated (Max): 0.228" (5.80mm); LastUpdated: 9/2/2020 1:18:37 AM; Lifecycle Status: Active; Minimum Order: 1; Mounting Type: Surface Mount; Operating Temperature: -55°C ~ 105°C; Package / Case: Radial, Can - SMD; Packaging: TapeAndReel; PartId: 8880; Part Status: Active; Price: 0.16; Series: UWD; Size / Dimension: 0.248" Dia (6.30mm); Supplier 1: DigiKey; Supplier Part Number 1: 493-9642-1-ND; Tolerance: ±20%; Value: 68µF; Voltage - Rated: 6.3V
footprint CAP ALSMD 6.6MM H6.1MM
pins: 1, 2

## UWD1A101MCL1GS
designator C?, comment 100µF
CAP ALUM 100UF 20% 10V SMD; Part Number: UWD1A101MCL1GS; Manufacturer: Nichicon; Impedance: 440 mOhms; Lifetime @ Temp.: 2000 Hrs @ 105°C; Ripple Current @ High Frequency: 230mA @ 100kHz; Ripple Current @ Low Frequency: 115mA @ 120Hz; Surface Mount Land Size: 0.260" L x 0.260" W (6.60mm x 6.60mm); Applications: General Purpose; Capacitance: 100µF; ComponentLink1Description: Datasheet; ComponentLink1URL: http://nichicon-us.com/english/products/pdfs/e-uwd.pdf; ComponentLink2Description: DigiKey Link; ComponentLink2URL: http://digikey.com/product-detail/en/nichicon/UWD1A101MCL1GS/493-6284-1-ND/3438797; Device Package: Radial, Can - SMD; Height - Seated (Max): 0.240" (6.10mm); LastUpdated: 9/2/2020 1:25:27 AM; Lifecycle Status: Active; Minimum Order: 1; Mounting Type: Surface Mount; Operating Temperature: -55°C ~ 105°C; Package / Case: Radial, Can - SMD; Packaging: TapeAndReel; PartId: 8105; Part Status: Active; Price: 0.22; Series: UWD; Size / Dimension: 0.248" Dia (6.30mm); Supplier 1: DigiKey; Supplier Part Number 1: 493-6284-1-ND; Tolerance: ±20%; Value: 100µF; Voltage - Rated: 10V
footprint CAP ALSMD 6.6MM H6.1MM
pins: 1, 2

## UWD1A151MCL1GS
designator C?, comment 150µF
CAP ALUM 150UF 20% 10V SMD; Part Number: UWD1A151MCL1GS; Manufacturer: Nichicon; Impedance: 440 mOhms; Lifetime @ Temp.: 2000 Hrs @ 105°C; Ripple Current @ High Frequency: 230mA @ 100kHz; Ripple Current @ Low Frequency: 115mA @ 120Hz; Surface Mount Land Size: 0.260" L x 0.260" W (6.60mm x 6.60mm); Applications: General Purpose; Capacitance: 150µF; ComponentLink1Description: Datasheet; ComponentLink1URL: http://nichicon-us.com/english/products/pdfs/e-uwd.pdf; ComponentLink2Description: DigiKey Link; ComponentLink2URL: http://digikey.com/product-detail/en/nichicon/UWD1A151MCL1GS/493-9645-1-ND/3962977; Device Package: Radial, Can - SMD; Height - Seated (Max): 0.228" (5.80mm); LastUpdated: 9/2/2020 1:18:40 AM; Lifecycle Status: Active; Minimum Order: 1; Mounting Type: Surface Mount; Operating Temperature: -55°C ~ 105°C; Package / Case: Radial, Can - SMD; Packaging: TapeAndReel; PartId: 9047; Part Status: Active; Price: 0.22; Series: UWD; Size / Dimension: 0.248" Dia (6.30mm); Supplier 1: DigiKey; Supplier Part Number 1: 493-9645-1-ND; Tolerance: ±20%; Value: 150µF; Voltage - Rated: 10V
footprint CAP ALSMD 6.6MM H6.1MM
pins: 1, 2